# Altium footprint library IGBMOS.PcbLib: 1 footprints
Each footprint in its own frame and in the unit in brackets; x right, y up, seen from the top. Pads: shape width x height; smd on the part's side, far side on the other; paste and mask are expansions set on the pad; w line width, h text height; cw(c..) or ccw(c..) is an arc to the next point about the centre after c.
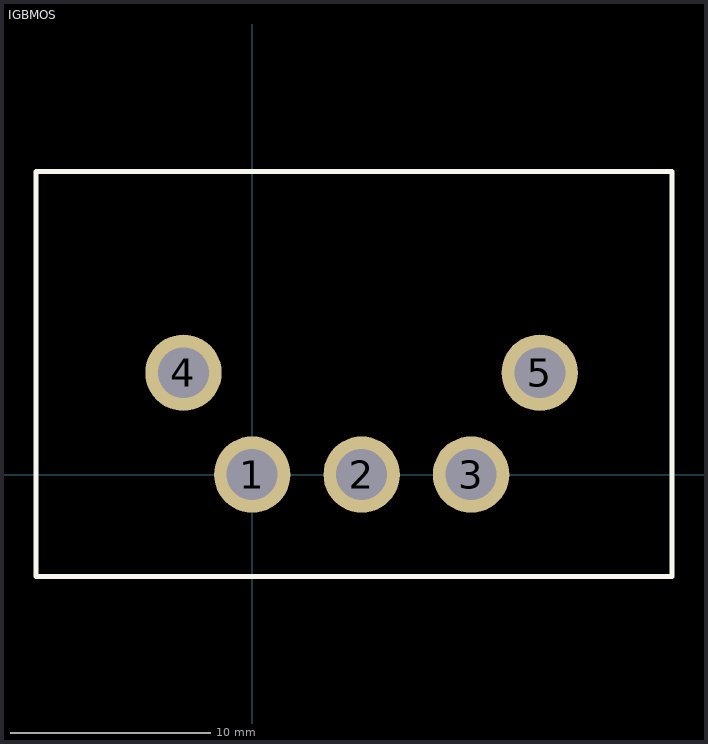
[diagram p0: the footprint, top view; thin cyan lines are the x and y axes]

## IGBMOS [mil]
pads (5):
  round 150 hole 100: 1(0,0) 2(215,0) 3(430,0) 4(-135,200) 5(565,200)
Top Overlay:
  lines w10: -425,-200 -425,595 825,595 825,-200 0,-200 -425,-200